# EAGLE library part RN4020 (library MyParts)
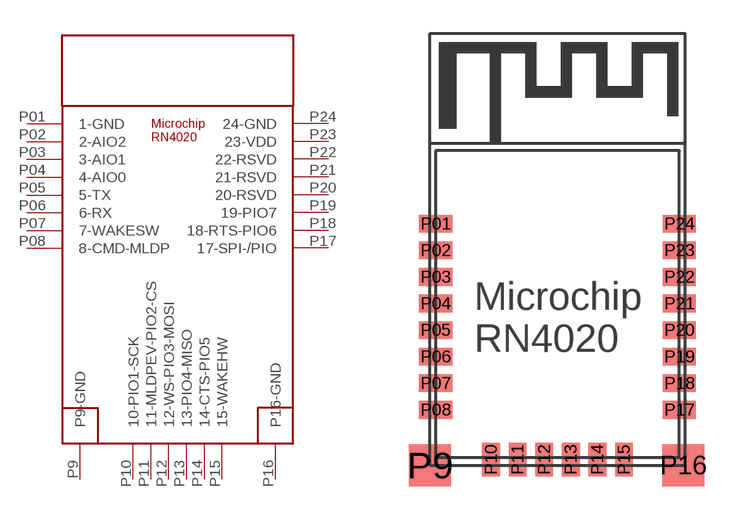
[diagram p3: symbol with the pads of RN4020SMD; footprint RN4020SMD]

Designator prefix -

## RN4020  [RN4020SMD]
P01  1-GND
P02  2-AIO2
P03  3-AIO1
P04  4-AIO0
P05  5-TX
P06  6-RX
P07  7-WAKESW
P08  8-CMD-MLDP
P9  P9-GND
P10  10-PIO1-SCK
P11  11-MLDPEV-PIO2-CS
P12  12-WS-PIO3-MOSI
P13  13-PIO4-MISO
P14  14-CTS-PIO5
P15  15-WAKEHW
P16  P16-GND
P17  17-SPI-/PIO
P18  18-RTS-PIO6
P19  19-PIO7
P20  20-RSVD
P21  21-RSVD
P22  22-RSVD
P23  23-VDD
P24  24-GND

## Footprint RN4020SMD (pad centres in mm)
smd 1.5 x 0.8: P01 0.25,10.9; P02 0.25,9.7; P03 0.25,8.5; P04 0.25,7.3; P05 0.25,6.1; P06 0.25,4.9; P07 0.25,3.7; P08 0.25,2.5; P17 11.25,2.5; P18 11.25,3.7; P19 11.25,4.9; P20 11.25,6.1; P21 11.25,7.3; P22 11.25,8.5; P23 11.25,9.7; P24 11.25,10.9
smd 1.905 x 1.905: P9 0,0; P16 11.43,0
smd 0.8 x 1.5: P10 2.75,0.25; P11 3.95,0.25; P12 5.15,0.25; P13 6.35,0.25; P14 7.55,0.25; P15 8.75,0.25